# Altium integrated library TI_Logic_Specialty_Logic.IntLib: 2504 symbols (part 63 of 81)
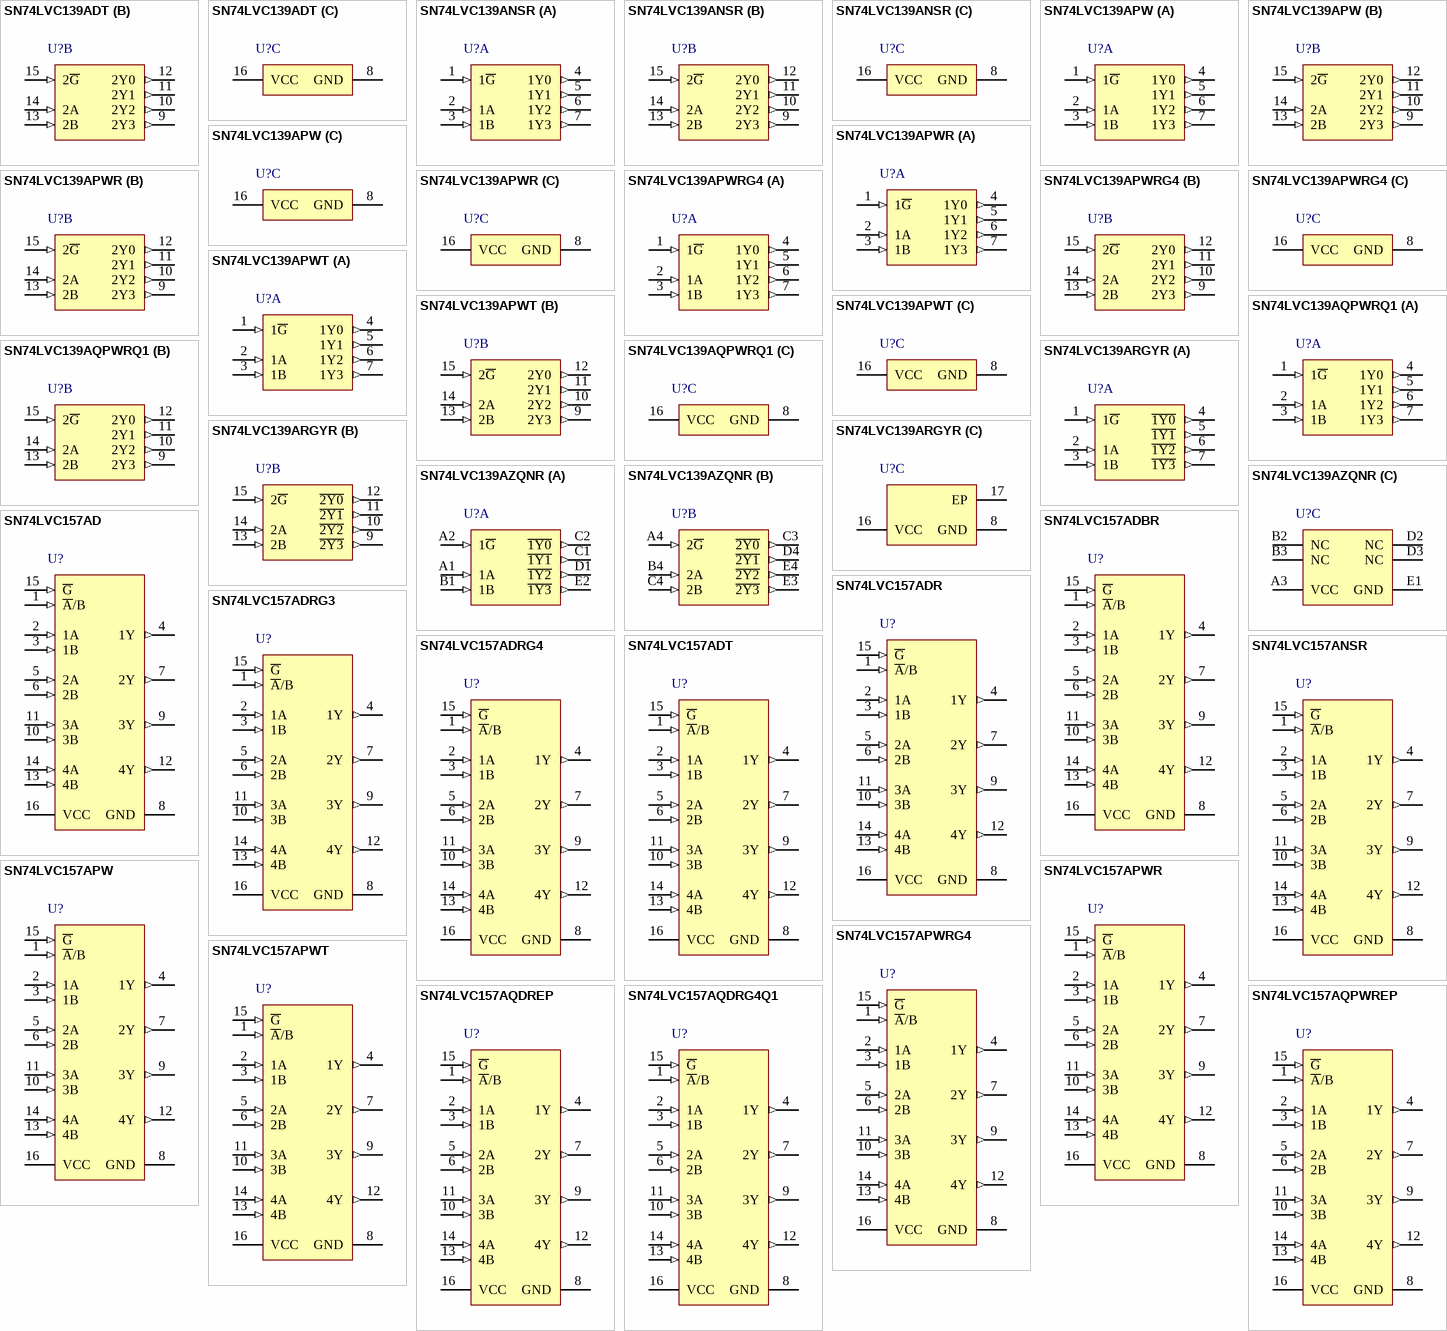
[diagram p166: symbols SN74LVC139ADT to SN74LVC157AQPWREP]

## SN74LVC139ARGYR
designator U?
Dual 2-Line To 4-Line Decoder/Demultiplexer, RGY0016A, LARGE T&R; Generic Part Number: SN74LVC139A; Manufacturer: Texas Instruments; PartNumber: SN74LVC139ARGYR; VCC(Min)(V): 1.65; VCC(Max)(V): 3.6; Output Type: CMOS; ICC @ Nom Voltage(Max)(mA): 0.01; Input Type: TLL/CMOS; Bits(#): 4; F @ Nom Voltage(Max)(Mhz): 100; Configuration: 2：4; Channels(#): 2; Rating: Catalog; Technology Family: LVC; Voltage(Nom)(V): 1.8,2.5,2.7,3.3; Schmitt Trigger: No; Output Drive (IOL/IOH)(Max)(mA): 24/-24; tpd @ Nom Voltage(Max)(ns): 20.6,9.3,7.3,6.2; DatasheetVersion: SCAS341O; PackageReference: RGY0016A; Supplier 1: Mouser; Supplier Part Number 1: 595-SN74LVC139ARGYR; Supplier 2: Digi-Key; Supplier Part Number 2: 296-13964-2-ND; Supplier 3: Digi-Key; Supplier Part Number 3: 296-13964-1-ND; Supplier 4: Digi-Key; Supplier Part Number 4: 296-13964-6-ND; Function: Decoder/Demultiplexer; Operating Temperature Range(C): -40 to 85; Type: Standard; Code_JEDEC: MO-241; ComponentLink1Description: Manufacturer URL; ComponentLink1URL: http://www.ti.com/; ComponentLink2Description: Datasheet; ComponentLink2URL: http://www.ti.com/lit/ds/symlink/sn74lvc139a.pdf; ComponentLink3Description: Package Specification; ComponentLink3URL: http://www.ti.com/lit/ml/mpqf115g/mpqf115g.pdf
footprint RGY0016A_V (QFN, 16-Leads, Body 4x3.5mm, Thermal Pad 2.55x2.05mm, TI Recommend)
part A pins: 1 1~{G} (in), 2 1A (in), 3 1B (in), 4 ~{1Y0} (out), 5 ~{1Y1} (out), 6 ~{1Y2} (out), 7 ~{1Y3} (out)
part B pins: 9 ~{2Y3} (out), 10 ~{2Y2} (out), 11 ~{2Y1} (out), 12 ~{2Y0} (out), 13 2B (in), 14 2A (in), 15 2~{G} (in)
part C pins: 8 GND (power), 16 VCC (power), 17 EP

## SN74LVC139AZQNR
designator U?
Dual 2-Line To 4-Line Decoder/Demultiplexer, ZQN0020A, LARGE T&R; Generic Part Number: SN74LVC139A; Manufacturer: Texas Instruments; PartNumber: SN74LVC139AZQNR; VCC(Min)(V): 1.65; VCC(Max)(V): 3.6; Output Type: CMOS; ICC @ Nom Voltage(Max)(mA): 0.01; Input Type: TLL/CMOS; Bits(#): 4; F @ Nom Voltage(Max)(Mhz): 100; Configuration: 2：4; Channels(#): 2; Rating: Catalog; Technology Family: LVC; Voltage(Nom)(V): 1.8,2.5,2.7,3.3; Schmitt Trigger: No; Output Drive (IOL/IOH)(Max)(mA): 24/-24; tpd @ Nom Voltage(Max)(ns): 20.6,9.3,7.3,6.2; DatasheetVersion: SCAS341O; PackageReference: ZQN0020A; Supplier 1: Mouser; Supplier Part Number 1: 595-SN74LVC139AZQNR; Supplier 2: Digi-Key; Supplier Part Number 2: 296-40547-2-ND; Supplier 3: Digi-Key; Supplier Part Number 3: 296-40547-1-ND; Supplier 4: Digi-Key; Supplier Part Number 4: 296-40547-6-ND; Function: Decoder/Demultiplexer; Operating Temperature Range(C): -40 to 85; Type: Standard; Code_JEDEC: MO-285; ComponentLink1Description: Manufacturer URL; ComponentLink1URL: http://www.ti.com/; ComponentLink2Description: Datasheet; ComponentLink2URL: http://www.ti.com/lit/ds/symlink/sn74lvc139a.pdf; ComponentLink3Description: Package Specification; ComponentLink3URL: http://www.ti.com/lit/ml/mpbg297b/mpbg297b.pdf
footprint ZQN0020A (BGA, 20-Balls, Body 4x3mm, Pitch 0.65mm)
part A pins: A1 1A (in), A2 1~{G} (in), B1 1B (in), C1 ~{1Y1} (out), C2 ~{1Y0} (out), D1 ~{1Y2} (out), E2 ~{1Y3} (out)
part B pins: A4 2~{G} (in), B4 2A (in), C3 ~{2Y0} (out), C4 2B (in), D4 ~{2Y1} (out), E3 ~{2Y3} (out), E4 ~{2Y2} (out)
part C pins: A3 VCC (power), B2 NC, B3 NC, D2 NC, D3 NC, E1 GND (power)

## SN74LVC157AD
designator U?
Quadruple 2-Line To1-Line Data Selector / Multiplexer, D0016A, TUBE; Generic Part Number: SN74LVC157A; Manufacturer: Texas Instruments; PartNumber: SN74LVC157AD; VCC(Min)(V): 1.65; VCC(Max)(V): 3.6; Output Type: CMOS; Function: Encoder/Multiplexer; ICC @ Nom Voltage(Max)(mA): 0.04; Input Type: TLL/CMOS; Bits(#): 2; F @ Nom Voltage(Max)(Mhz): 100; Configuration: 2：1; Channels(#): 4; Rating: Catalog; Technology Family: LVC; Voltage(Nom)(V): 1.8,2.5,2.7,3.3; Schmitt Trigger: No; Output Drive (IOL/IOH)(Max)(mA): 24/-24; tpd @ Nom Voltage(Max)(ns): 13.5,7.4,5.7,5; DatasheetVersion: SCAS292Q; PackageReference: D0016A; Supplier 1: Mouser; Supplier Part Number 1: 595-SN74LVC157AD; Supplier 2: Digi-Key; Supplier Part Number 2: 296-1700-5-ND; Operating Temperature Range(C): -40 to 85; Type: Standard; Code_JEDEC: MS-012 variation AC; ComponentLink1Description: Manufacturer URL; ComponentLink1URL: http://www.ti.com/; ComponentLink2Description: Datasheet; ComponentLink2URL: http://www.ti.com/lit/ds/symlink/sn74lvc157a.pdf; ComponentLink3Description: Package Specification; ComponentLink3URL: http://www.ti.com/lit/ml/mpds178g/mpds178g.pdf
footprint D0016A_N (SOIC, 16-Leads, Body 10x4mm, Pitch 1.27mm, IPC Medium Density)
footprint D0016A_M (SOIC, 16-Leads, Body 10x4mm, Pitch 1.27mm, IPC Low Density)
footprint D0016A_L (SOIC, 16-Leads, Body 10x4mm, Pitch 1.27mm, IPC High Density)
pins: 1 ~{A}/B (in), 2 1A (in), 3 1B (in), 4 1Y (out), 5 2A (in), 6 2B (in), 7 2Y (out), 8 GND (power), 9 3Y (out), 10 3B (in), 11 3A (in), 12 4Y (out), 13 4B (in), 14 4A (in), 15 ~{G} (in), 16 VCC (power)

## SN74LVC157ADBR
designator U?
Quadruple 2-Line To1-Line Data Selector / Multiplexer, DB0016A, LARGE T&R; Generic Part Number: SN74LVC157A; Manufacturer: Texas Instruments; PartNumber: SN74LVC157ADBR; VCC(Min)(V): 1.65; VCC(Max)(V): 3.6; Output Type: CMOS; Function: Encoder/Multiplexer; ICC @ Nom Voltage(Max)(mA): 0.04; Input Type: TLL/CMOS; Bits(#): 2; F @ Nom Voltage(Max)(Mhz): 100; Configuration: 2：1; Channels(#): 4; Rating: Catalog; Technology Family: LVC; Voltage(Nom)(V): 1.8,2.5,2.7,3.3; Schmitt Trigger: No; Output Drive (IOL/IOH)(Max)(mA): 24/-24; tpd @ Nom Voltage(Max)(ns): 13.5,7.4,5.7,5; DatasheetVersion: SCAS292Q; PackageReference: DB0016A; Supplier 1: Mouser; Supplier Part Number 1: 595-SN74LVC157ADBR; Supplier 2: Digi-Key; Supplier Part Number 2: 296-8465-2-ND; Supplier 3: Digi-Key; Supplier Part Number 3: 296-8465-1-ND; Supplier 4: Digi-Key; Supplier Part Number 4: 296-8465-6-ND; Operating Temperature Range(C): -40 to 85; Type: Standard; Code_JEDEC: MO-150; ComponentLink1Description: Manufacturer URL; ComponentLink1URL: http://www.ti.com/; ComponentLink2Description: Datasheet; ComponentLink2URL: http://www.ti.com/lit/ds/symlink/sn74lvc157a.pdf; ComponentLink3Description: Package Specification; ComponentLink3URL: http://www.ti.com/lit/ml/mpds507/mpds507.pdf
footprint DB0016A_N (SOP, 16-Leads, Body 5.6x6.5mm, Pitch 0.65mm, IPC Medium Density)
footprint DB0016A_M (SOP, 16-Leads, Body 5.6x6.5mm, Pitch 0.65mm, IPC Low Density)
footprint DB0016A_L (SOP, 16-Leads, Body 5.6x6.5mm, Pitch 0.65mm, IPC High Density)
pins: 1 ~{A}/B (in), 2 1A (in), 3 1B (in), 4 1Y (out), 5 2A (in), 6 2B (in), 7 2Y (out), 8 GND (power), 9 3Y (out), 10 3B (in), 11 3A (in), 12 4Y (out), 13 4B (in), 14 4A (in), 15 ~{G} (in), 16 VCC (power)

## SN74LVC157ADR
designator U?
Quadruple 2-Line To1-Line Data Selector / Multiplexer, D0016A, LARGE T&R; Generic Part Number: SN74LVC157A; Manufacturer: Texas Instruments; PartNumber: SN74LVC157ADR; VCC(Min)(V): 1.65; VCC(Max)(V): 3.6; Output Type: CMOS; Function: Encoder/Multiplexer; ICC @ Nom Voltage(Max)(mA): 0.04; Input Type: TLL/CMOS; Bits(#): 2; F @ Nom Voltage(Max)(Mhz): 100; Configuration: 2：1; Channels(#): 4; Rating: Catalog; Technology Family: LVC; Voltage(Nom)(V): 1.8,2.5,2.7,3.3; Schmitt Trigger: No; Output Drive (IOL/IOH)(Max)(mA): 24/-24; tpd @ Nom Voltage(Max)(ns): 13.5,7.4,5.7,5; DatasheetVersion: SCAS292Q; PackageReference: D0016A; Supplier 1: Mouser; Supplier Part Number 1: 595-SN74LVC157ADR; Supplier 2: Digi-Key; Supplier Part Number 2: 296-14907-2-ND; Supplier 3: Digi-Key; Supplier Part Number 3: 296-14907-1-ND; Supplier 4: Digi-Key; Supplier Part Number 4: 296-14907-6-ND; Operating Temperature Range(C): -40 to 85; Type: Standard; Code_JEDEC: MS-012 variation AC; ComponentLink1Description: Manufacturer URL; ComponentLink1URL: http://www.ti.com/; ComponentLink2Description: Datasheet; ComponentLink2URL: http://www.ti.com/lit/ds/symlink/sn74lvc157a.pdf; ComponentLink3Description: Package Specification; ComponentLink3URL: http://www.ti.com/lit/ml/mpds178g/mpds178g.pdf
footprint D0016A_N (SOIC, 16-Leads, Body 10x4mm, Pitch 1.27mm, IPC Medium Density)
footprint D0016A_M (SOIC, 16-Leads, Body 10x4mm, Pitch 1.27mm, IPC Low Density)
footprint D0016A_L (SOIC, 16-Leads, Body 10x4mm, Pitch 1.27mm, IPC High Density)
pins: 1 ~{A}/B (in), 2 1A (in), 3 1B (in), 4 1Y (out), 5 2A (in), 6 2B (in), 7 2Y (out), 8 GND (power), 9 3Y (out), 10 3B (in), 11 3A (in), 12 4Y (out), 13 4B (in), 14 4A (in), 15 ~{G} (in), 16 VCC (power)

## SN74LVC157ADRG3
designator U?
Quadruple 2-Line To1-Line Data Selector / Multiplexer, D0016A, LARGE T&R; Generic Part Number: SN74LVC157A; Manufacturer: Texas Instruments; PartNumber: SN74LVC157ADRG3; VCC(Min)(V): 1.65; VCC(Max)(V): 3.6; Output Type: CMOS; Function: Encoder/Multiplexer; ICC @ Nom Voltage(Max)(mA): 0.04; Input Type: TLL/CMOS; Bits(#): 2; F @ Nom Voltage(Max)(Mhz): 100; Configuration: 2：1; Channels(#): 4; Rating: Catalog; Technology Family: LVC; Voltage(Nom)(V): 1.8,2.5,2.7,3.3; Schmitt Trigger: No; Output Drive (IOL/IOH)(Max)(mA): 24/-24; tpd @ Nom Voltage(Max)(ns): 13.5,7.4,5.7,5; DatasheetVersion: SCAS292Q; PackageReference: D0016A; Supplier 1: Mouser; Supplier Part Number 1: 595-SN74LVC157ADRG3; Supplier 2: Digi-Key; Supplier Part Number 2: 296-31907-2-ND; Supplier 3: Digi-Key; Supplier Part Number 3: 296-31907-1-ND; Supplier 4: Digi-Key; Supplier Part Number 4: 296-31907-6-ND; Operating Temperature Range(C): -40 to 85; Type: Standard; Code_JEDEC: MS-012 variation AC; ComponentLink1Description: Manufacturer URL; ComponentLink1URL: http://www.ti.com/; ComponentLink2Description: Datasheet; ComponentLink2URL: http://www.ti.com/lit/ds/symlink/sn74lvc157a.pdf; ComponentLink3Description: Package Specification; ComponentLink3URL: http://www.ti.com/lit/ml/mpds178g/mpds178g.pdf
footprint D0016A_N (SOIC, 16-Leads, Body 10x4mm, Pitch 1.27mm, IPC Medium Density)
footprint D0016A_M (SOIC, 16-Leads, Body 10x4mm, Pitch 1.27mm, IPC Low Density)
footprint D0016A_L (SOIC, 16-Leads, Body 10x4mm, Pitch 1.27mm, IPC High Density)
pins: 1 ~{A}/B (in), 2 1A (in), 3 1B (in), 4 1Y (out), 5 2A (in), 6 2B (in), 7 2Y (out), 8 GND (power), 9 3Y (out), 10 3B (in), 11 3A (in), 12 4Y (out), 13 4B (in), 14 4A (in), 15 ~{G} (in), 16 VCC (power)

## SN74LVC157ADRG4
designator U?
Quadruple 2-Line To1-Line Data Selector / Multiplexer, D0016A, LARGE T&R; Generic Part Number: SN74LVC157A; Manufacturer: Texas Instruments; PartNumber: SN74LVC157ADRG4; VCC(Min)(V): 1.65; VCC(Max)(V): 3.6; Output Type: CMOS; Function: Encoder/Multiplexer; ICC @ Nom Voltage(Max)(mA): 0.04; Input Type: TLL/CMOS; Bits(#): 2; F @ Nom Voltage(Max)(Mhz): 100; Configuration: 2：1; Channels(#): 4; Rating: Catalog; Technology Family: LVC; Voltage(Nom)(V): 1.8,2.5,2.7,3.3; Schmitt Trigger: No; Output Drive (IOL/IOH)(Max)(mA): 24/-24; tpd @ Nom Voltage(Max)(ns): 13.5,7.4,5.7,5; DatasheetVersion: SCAS292Q; PackageReference: D0016A; Supplier 1: Mouser; Supplier Part Number 1: 595-SN74LVC157ADRG4; Supplier 2: Digi-Key; Supplier Part Number 2: SN74LVC157ADRG4-ND; Operating Temperature Range(C): -40 to 85; Type: Standard; Code_JEDEC: MS-012 variation AC; ComponentLink1Description: Manufacturer URL; ComponentLink1URL: http://www.ti.com/; ComponentLink2Description: Datasheet; ComponentLink2URL: http://www.ti.com/lit/ds/symlink/sn74lvc157a.pdf; ComponentLink3Description: Package Specification; ComponentLink3URL: http://www.ti.com/lit/ml/mpds178g/mpds178g.pdf
footprint D0016A_N (SOIC, 16-Leads, Body 10x4mm, Pitch 1.27mm, IPC Medium Density)
footprint D0016A_M (SOIC, 16-Leads, Body 10x4mm, Pitch 1.27mm, IPC Low Density)
footprint D0016A_L (SOIC, 16-Leads, Body 10x4mm, Pitch 1.27mm, IPC High Density)
pins: 1 ~{A}/B (in), 2 1A (in), 3 1B (in), 4 1Y (out), 5 2A (in), 6 2B (in), 7 2Y (out), 8 GND (power), 9 3Y (out), 10 3B (in), 11 3A (in), 12 4Y (out), 13 4B (in), 14 4A (in), 15 ~{G} (in), 16 VCC (power)

## SN74LVC157ADT
designator U?
Quadruple 2-Line To1-Line Data Selector / Multiplexer, D0016A, SMALL T&R; Generic Part Number: SN74LVC157A; Manufacturer: Texas Instruments; PartNumber: SN74LVC157ADT; VCC(Min)(V): 1.65; VCC(Max)(V): 3.6; Output Type: CMOS; Function: Encoder/Multiplexer; ICC @ Nom Voltage(Max)(mA): 0.04; Input Type: TLL/CMOS; Bits(#): 2; F @ Nom Voltage(Max)(Mhz): 100; Configuration: 2：1; Channels(#): 4; Rating: Catalog; Technology Family: LVC; Voltage(Nom)(V): 1.8,2.5,2.7,3.3; Schmitt Trigger: No; Output Drive (IOL/IOH)(Max)(mA): 24/-24; tpd @ Nom Voltage(Max)(ns): 13.5,7.4,5.7,5; DatasheetVersion: SCAS292Q; PackageReference: D0016A; Supplier 1: Mouser; Supplier Part Number 1: 595-SN74LVC157ADT; Supplier 2: Digi-Key; Supplier Part Number 2: SN74LVC157ADT-ND; Operating Temperature Range(C): -40 to 85; Type: Standard; Code_JEDEC: MS-012 variation AC; ComponentLink1Description: Manufacturer URL; ComponentLink1URL: http://www.ti.com/; ComponentLink2Description: Datasheet; ComponentLink2URL: http://www.ti.com/lit/ds/symlink/sn74lvc157a.pdf; ComponentLink3Description: Package Specification; ComponentLink3URL: http://www.ti.com/lit/ml/mpds178g/mpds178g.pdf
footprint D0016A_N (SOIC, 16-Leads, Body 10x4mm, Pitch 1.27mm, IPC Medium Density)
footprint D0016A_M (SOIC, 16-Leads, Body 10x4mm, Pitch 1.27mm, IPC Low Density)
footprint D0016A_L (SOIC, 16-Leads, Body 10x4mm, Pitch 1.27mm, IPC High Density)
pins: 1 ~{A}/B (in), 2 1A (in), 3 1B (in), 4 1Y (out), 5 2A (in), 6 2B (in), 7 2Y (out), 8 GND (power), 9 3Y (out), 10 3B (in), 11 3A (in), 12 4Y (out), 13 4B (in), 14 4A (in), 15 ~{G} (in), 16 VCC (power)

## SN74LVC157ANSR
designator U?
Quadruple 2-Line To1-Line Data Selector / Multiplexer, NS0016A, LARGE T&R; Generic Part Number: SN74LVC157A; Manufacturer: Texas Instruments; PartNumber: SN74LVC157ANSR; VCC(Min)(V): 1.65; VCC(Max)(V): 3.6; Output Type: CMOS; Function: Encoder/Multiplexer; ICC @ Nom Voltage(Max)(mA): 0.04; Input Type: TLL/CMOS; Bits(#): 2; F @ Nom Voltage(Max)(Mhz): 100; Configuration: 2：1; Channels(#): 4; Rating: Catalog; Technology Family: LVC; Voltage(Nom)(V): 1.8,2.5,2.7,3.3; Schmitt Trigger: No; Output Drive (IOL/IOH)(Max)(mA): 24/-24; tpd @ Nom Voltage(Max)(ns): 13.5,7.4,5.7,5; DatasheetVersion: SCAS292Q; PackageReference: NS0016A; Supplier 1: Mouser; Supplier Part Number 1: 595-SN74LVC157ANSR; Supplier 2: Digi-Key; Supplier Part Number 2: 296-26585-2-ND; Supplier 3: Digi-Key; Supplier Part Number 3: 296-26585-1-ND; Supplier 4: Digi-Key; Supplier Part Number 4: 296-26585-6-ND; Operating Temperature Range(C): -40 to 85; Type: Standard; ComponentLink1Description: Manufacturer URL; ComponentLink1URL: http://www.ti.com/; ComponentLink2Description: Datasheet; ComponentLink2URL: http://www.ti.com/lit/ds/symlink/sn74lvc157a.pdf; ComponentLink3Description: Package Specification; ComponentLink3URL: http://www.ti.com/lit/ml/msop002a/msop002a.pdf
footprint NS0016A_N (SOIC,16-Leads,Body 10.5x5.6mm,Pitch 1.27mm,IPC Medium Density)
footprint NS0016A_M (SOIC,16-Leads,Body 10.5x5.6mm,Pitch 1.27mm,IPC Low Density)
footprint NS0016A_L (SOIC,16-Leads,Body 10.5x5.6mm,Pitch 1.27mm,IPC High Density)
pins: 1 ~{A}/B (in), 2 1A (in), 3 1B (in), 4 1Y (out), 5 2A (in), 6 2B (in), 7 2Y (out), 8 GND (power), 9 3Y (out), 10 3B (in), 11 3A (in), 12 4Y (out), 13 4B (in), 14 4A (in), 15 ~{G} (in), 16 VCC (power)

## SN74LVC157APW
designator U?
Quadruple 2-Line To1-Line Data Selector / Multiplexer, PW0016A, TUBE; Generic Part Number: SN74LVC157A; Manufacturer: Texas Instruments; PartNumber: SN74LVC157APW; VCC(Min)(V): 1.65; VCC(Max)(V): 3.6; Output Type: CMOS; Function: Encoder/Multiplexer; ICC @ Nom Voltage(Max)(mA): 0.04; Input Type: TLL/CMOS; Bits(#): 2; F @ Nom Voltage(Max)(Mhz): 100; Configuration: 2：1; Channels(#): 4; Rating: Catalog; Technology Family: LVC; Voltage(Nom)(V): 1.8,2.5,2.7,3.3; Schmitt Trigger: No; Output Drive (IOL/IOH)(Max)(mA): 24/-24; tpd @ Nom Voltage(Max)(ns): 13.5,7.4,5.7,5; DatasheetVersion: SCAS292Q; PackageReference: PW0016A; Supplier 1: Mouser; Supplier Part Number 1: 595-SN74LVC157APW; Supplier 2: Digi-Key; Supplier Part Number 2: 296-26586-5-ND; Operating Temperature Range(C): -40 to 85; Type: Standard; Code_JEDEC: MO-153; ComponentLink1Description: Manufacturer URL; ComponentLink1URL: http://www.ti.com/; ComponentLink2Description: Datasheet; ComponentLink2URL: http://www.ti.com/lit/ds/symlink/sn74lvc157a.pdf; ComponentLink3Description: Package Specification; ComponentLink3URL: http://www.ti.com/lit/ml/mpds361/mpds361.pdf
footprint PW0016A_N (SOP, 16-Leads, Body 5.1x4.5mm, Pitch 0.65mm, IPC Medium Density)
footprint PW0016A_M (SOP, 16-Leads, Body 5.1x4.5mm, Pitch 0.65mm, IPC Low Density)
footprint PW0016A_L (SOP, 16-Leads, Body 5.1x4.5mm, Pitch 0.65mm, IPC High Density)
pins: 1 ~{A}/B (in), 2 1A (in), 3 1B (in), 4 1Y (out), 5 2A (in), 6 2B (in), 7 2Y (out), 8 GND (power), 9 3Y (out), 10 3B (in), 11 3A (in), 12 4Y (out), 13 4B (in), 14 4A (in), 15 ~{G} (in), 16 VCC (power)

## SN74LVC157APWR
designator U?
Quadruple 2-Line To1-Line Data Selector / Multiplexer, PW0016A, LARGE T&R; Generic Part Number: SN74LVC157A; Manufacturer: Texas Instruments; PartNumber: SN74LVC157APWR; VCC(Min)(V): 1.65; VCC(Max)(V): 3.6; Output Type: CMOS; Function: Encoder/Multiplexer; ICC @ Nom Voltage(Max)(mA): 0.04; Input Type: TLL/CMOS; Bits(#): 2; F @ Nom Voltage(Max)(Mhz): 100; Configuration: 2：1; Channels(#): 4; Rating: Catalog; Technology Family: LVC; Voltage(Nom)(V): 1.8,2.5,2.7,3.3; Schmitt Trigger: No; Output Drive (IOL/IOH)(Max)(mA): 24/-24; tpd @ Nom Voltage(Max)(ns): 13.5,7.4,5.7,5; DatasheetVersion: SCAS292Q; PackageReference: PW0016A; Supplier 1: Mouser; Supplier Part Number 1: 595-SN74LVC157APWR; Supplier 2: Digi-Key; Supplier Part Number 2: 296-1225-2-ND; Supplier 3: Digi-Key; Supplier Part Number 3: 296-1225-1-ND; Supplier 4: Digi-Key; Supplier Part Number 4: 296-1225-6-ND; Operating Temperature Range(C): -40 to 85; Type: Standard; Code_JEDEC: MO-153; ComponentLink1Description: Manufacturer URL; ComponentLink1URL: http://www.ti.com/; ComponentLink2Description: Datasheet; ComponentLink2URL: http://www.ti.com/lit/ds/symlink/sn74lvc157a.pdf; ComponentLink3Description: Package Specification; ComponentLink3URL: http://www.ti.com/lit/ml/mpds361/mpds361.pdf
footprint PW0016A_N (SOP, 16-Leads, Body 5.1x4.5mm, Pitch 0.65mm, IPC Medium Density)
footprint PW0016A_M (SOP, 16-Leads, Body 5.1x4.5mm, Pitch 0.65mm, IPC Low Density)
footprint PW0016A_L (SOP, 16-Leads, Body 5.1x4.5mm, Pitch 0.65mm, IPC High Density)
pins: 1 ~{A}/B (in), 2 1A (in), 3 1B (in), 4 1Y (out), 5 2A (in), 6 2B (in), 7 2Y (out), 8 GND (power), 9 3Y (out), 10 3B (in), 11 3A (in), 12 4Y (out), 13 4B (in), 14 4A (in), 15 ~{G} (in), 16 VCC (power)

## SN74LVC157APWRG4
designator U?
Quadruple 2-Line To1-Line Data Selector / Multiplexer, PW0016A, LARGE T&R; Generic Part Number: SN74LVC157A; Manufacturer: Texas Instruments; PartNumber: SN74LVC157APWRG4; VCC(Min)(V): 1.65; VCC(Max)(V): 3.6; Output Type: CMOS; Function: Encoder/Multiplexer; ICC @ Nom Voltage(Max)(mA): 0.04; Input Type: TLL/CMOS; Bits(#): 2; F @ Nom Voltage(Max)(Mhz): 100; Configuration: 2：1; Channels(#): 4; Rating: Catalog; Technology Family: LVC; Voltage(Nom)(V): 1.8,2.5,2.7,3.3; Schmitt Trigger: No; Output Drive (IOL/IOH)(Max)(mA): 24/-24; tpd @ Nom Voltage(Max)(ns): 13.5,7.4,5.7,5; DatasheetVersion: SCAS292Q; PackageReference: PW0016A; Supplier 1: Mouser; Supplier Part Number 1: 595-SN74LVC157APWRG4; Supplier 2: Digi-Key; Supplier Part Number 2: SN74LVC157APWRG4-ND; Operating Temperature Range(C): -40 to 85; Type: Standard; Code_JEDEC: MO-153; ComponentLink1Description: Manufacturer URL; ComponentLink1URL: http://www.ti.com/; ComponentLink2Description: Datasheet; ComponentLink2URL: http://www.ti.com/lit/ds/symlink/sn74lvc157a.pdf; ComponentLink3Description: Package Specification; ComponentLink3URL: http://www.ti.com/lit/ml/mpds361/mpds361.pdf
footprint PW0016A_N (SOP, 16-Leads, Body 5.1x4.5mm, Pitch 0.65mm, IPC Medium Density)
footprint PW0016A_M (SOP, 16-Leads, Body 5.1x4.5mm, Pitch 0.65mm, IPC Low Density)
footprint PW0016A_L (SOP, 16-Leads, Body 5.1x4.5mm, Pitch 0.65mm, IPC High Density)
pins: 1 ~{A}/B (in), 2 1A (in), 3 1B (in), 4 1Y (out), 5 2A (in), 6 2B (in), 7 2Y (out), 8 GND (power), 9 3Y (out), 10 3B (in), 11 3A (in), 12 4Y (out), 13 4B (in), 14 4A (in), 15 ~{G} (in), 16 VCC (power)

## SN74LVC157APWT
designator U?
Quadruple 2-Line To1-Line Data Selector / Multiplexer, PW0016A, SMALL T&R; Generic Part Number: SN74LVC157A; Manufacturer: Texas Instruments; PartNumber: SN74LVC157APWT; VCC(Min)(V): 1.65; VCC(Max)(V): 3.6; Output Type: CMOS; Function: Encoder/Multiplexer; ICC @ Nom Voltage(Max)(mA): 0.04; Input Type: TLL/CMOS; Bits(#): 2; F @ Nom Voltage(Max)(Mhz): 100; Configuration: 2：1; Channels(#): 4; Rating: Catalog; Technology Family: LVC; Voltage(Nom)(V): 1.8,2.5,2.7,3.3; Schmitt Trigger: No; Output Drive (IOL/IOH)(Max)(mA): 24/-24; tpd @ Nom Voltage(Max)(ns): 13.5,7.4,5.7,5; DatasheetVersion: SCAS292Q; PackageReference: PW0016A; Supplier 1: Mouser; Supplier Part Number 1: 595-SN74LVC157APWT; Supplier 2: Digi-Key; Supplier Part Number 2: 296-31908-2-ND; Supplier 3: Digi-Key; Supplier Part Number 3: 296-31908-1-ND; Supplier 4: Digi-Key; Supplier Part Number 4: 296-31908-6-ND; Operating Temperature Range(C): -40 to 85; Type: Standard; Code_JEDEC: MO-153; ComponentLink1Description: Manufacturer URL; ComponentLink1URL: http://www.ti.com/; ComponentLink2Description: Datasheet; ComponentLink2URL: http://www.ti.com/lit/ds/symlink/sn74lvc157a.pdf; ComponentLink3Description: Package Specification; ComponentLink3URL: http://www.ti.com/lit/ml/mpds361/mpds361.pdf
footprint PW0016A_N (SOP, 16-Leads, Body 5.1x4.5mm, Pitch 0.65mm, IPC Medium Density)
footprint PW0016A_M (SOP, 16-Leads, Body 5.1x4.5mm, Pitch 0.65mm, IPC Low Density)
footprint PW0016A_L (SOP, 16-Leads, Body 5.1x4.5mm, Pitch 0.65mm, IPC High Density)
pins: 1 ~{A}/B (in), 2 1A (in), 3 1B (in), 4 1Y (out), 5 2A (in), 6 2B (in), 7 2Y (out), 8 GND (power), 9 3Y (out), 10 3B (in), 11 3A (in), 12 4Y (out), 13 4B (in), 14 4A (in), 15 ~{G} (in), 16 VCC (power)

## SN74LVC157AQDREP
designator U?
Enhanced Product Quadruple 2-Line To 1-Line Data Selector / Multiplexer, D0016A, LARGE T&R; Generic Part Number: SN74LVC157A-EP; Manufacturer: Texas Instruments; PartNumber: SN74LVC157AQDREP; VCC(Min)(V): 2; VCC(Max)(V): 3.6; ICC @ Nom Voltage(Max)(mA): 0.01; F @ Nom Voltage(Max)(Mhz): 100; Channels(#): 4; Rating: HiRel Enhanced Product; Technology Family: LVC; Voltage(Nom)(V): 2.7,3.3; Schmitt Trigger: No; Output Drive (IOL/IOH)(Max)(mA): 24/-24; tpd @ Nom Voltage(Max)(ns): 8.2,7; DatasheetVersion: SCAS735A; PackageReference: D0016A; Supplier 1: Mouser; Supplier Part Number 1: 595-SN74LVC157AQDREP; Supplier 2: Digi-Key; Supplier Part Number 2: 296-22335-2-ND; Supplier 3: Digi-Key; Supplier Part Number 3: 296-22335-1-ND; Supplier 4: Digi-Key; Supplier Part Number 4: 296-22335-6-ND; Operating Temperature Range(C): -40 to 125; Type: Standard; Code_JEDEC: MS-012 variation AC; ComponentLink1Description: Manufacturer URL; ComponentLink1URL: http://www.ti.com/; ComponentLink2Description: Datasheet; ComponentLink2URL: http://www.ti.com/lit/ds/symlink/sn74lvc157a-ep.pdf; ComponentLink3Description: Package Specification; ComponentLink3URL: http://www.ti.com/lit/ml/mpds178g/mpds178g.pdf
footprint D0016A_N (SOIC, 16-Leads, Body 10x4mm, Pitch 1.27mm, IPC Medium Density)
footprint D0016A_M (SOIC, 16-Leads, Body 10x4mm, Pitch 1.27mm, IPC Low Density)
footprint D0016A_L (SOIC, 16-Leads, Body 10x4mm, Pitch 1.27mm, IPC High Density)
pins: 1 ~{A}/B (in), 2 1A (in), 3 1B (in), 4 1Y (out), 5 2A (in), 6 2B (in), 7 2Y (out), 8 GND (power), 9 3Y (out), 10 3B (in), 11 3A (in), 12 4Y (out), 13 4B (in), 14 4A (in), 15 ~{G} (in), 16 VCC (power)

## SN74LVC157AQDRG4Q1
designator U?
Automotive Catalog Quadruple 2-Line To 1-Line Data Selector / Multiplexer, D0016A, LARGE T&R; Generic Part Number: SN74LVC157A-Q1; Manufacturer: Texas Instruments; PartNumber: SN74LVC157AQDRG4Q1; VCC(Min)(V): 2; VCC(Max)(V): 3.6; Output Type: CMOS; ICC @ Nom Voltage(Max)(mA): 0.01; Input Type: TLL/CMOS; F @ Nom Voltage(Max)(Mhz): 100; Channels(#): 4; Technology Family: LVC; Voltage(Nom)(V): 2.7,3.3; Schmitt Trigger: No; Output Drive (IOL/IOH)(Max)(mA): 24/-24; tpd @ Nom Voltage(Max)(ns): 8.2,7; DatasheetVersion: SCAS716C; PackageReference: D0016A; Supplier 1: Mouser; Supplier Part Number 1: 595-74LVC157AQDRG4Q1; Supplier 2: Digi-Key; Supplier Part Number 2: SN74LVC157AQDRG4Q1-ND; Bits(#): 2; Operating Temperature Range(C): -40 to 125; Type: Standard; Rating: Automotive; Code_JEDEC: MS-012 variation AC; ComponentLink1Description: Manufacturer URL; ComponentLink1URL: http://www.ti.com/; ComponentLink2Description: Datasheet; ComponentLink2URL: http://www.ti.com/lit/ds/symlink/sn74lvc157a-q1.pdf; ComponentLink3Description: Package Specification; ComponentLink3URL: http://www.ti.com/lit/ml/mpds178g/mpds178g.pdf
footprint D0016A_N (SOIC, 16-Leads, Body 10x4mm, Pitch 1.27mm, IPC Medium Density)
footprint D0016A_M (SOIC, 16-Leads, Body 10x4mm, Pitch 1.27mm, IPC Low Density)
footprint D0016A_L (SOIC, 16-Leads, Body 10x4mm, Pitch 1.27mm, IPC High Density)
pins: 1 ~{A}/B (in), 2 1A (in), 3 1B (in), 4 1Y (out), 5 2A (in), 6 2B (in), 7 2Y (out), 8 GND (power), 9 3Y (out), 10 3B (in), 11 3A (in), 12 4Y (out), 13 4B (in), 14 4A (in), 15 ~{G} (in), 16 VCC (power)

## SN74LVC157AQPWREP
designator U?
Enhanced Product Quadruple 2-Line To 1-Line Data Selector / Multiplexer, PW0016A, LARGE T&R; Generic Part Number: SN74LVC157A-EP; Manufacturer: Texas Instruments; PartNumber: SN74LVC157AQPWREP; VCC(Min)(V): 2; VCC(Max)(V): 3.6; ICC @ Nom Voltage(Max)(mA): 0.01; F @ Nom Voltage(Max)(Mhz): 100; Channels(#): 4; Rating: HiRel Enhanced Product; Technology Family: LVC; Voltage(Nom)(V): 2.7,3.3; Schmitt Trigger: No; Output Drive (IOL/IOH)(Max)(mA): 24/-24; tpd @ Nom Voltage(Max)(ns): 8.2,7; DatasheetVersion: SCAS735A; PackageReference: PW0016A; Supplier 1: Mouser; Supplier Part Number 1: 595-N74LVC157AQPWREP; Supplier 2: Digi-Key; Supplier Part Number 2: 296-22336-2-ND; Supplier 3: Digi-Key; Supplier Part Number 3: 296-22336-1-ND; Supplier 4: Digi-Key; Supplier Part Number 4: 296-22336-6-ND; Operating Temperature Range(C): -40 to 125; Type: Standard; Code_JEDEC: MO-153; ComponentLink1Description: Manufacturer URL; ComponentLink1URL: http://www.ti.com/; ComponentLink2Description: Datasheet; ComponentLink2URL: http://www.ti.com/lit/ds/symlink/sn74lvc157a-ep.pdf; ComponentLink3Description: Package Specification; ComponentLink3URL: http://www.ti.com/lit/ml/mpds361/mpds361.pdf
footprint PW0016A_N (SOP, 16-Leads, Body 5.1x4.5mm, Pitch 0.65mm, IPC Medium Density)
footprint PW0016A_M (SOP, 16-Leads, Body 5.1x4.5mm, Pitch 0.65mm, IPC Low Density)
footprint PW0016A_L (SOP, 16-Leads, Body 5.1x4.5mm, Pitch 0.65mm, IPC High Density)
pins: 1 ~{A}/B (in), 2 1A (in), 3 1B (in), 4 1Y (out), 5 2A (in), 6 2B (in), 7 2Y (out), 8 GND (power), 9 3Y (out), 10 3B (in), 11 3A (in), 12 4Y (out), 13 4B (in), 14 4A (in), 15 ~{G} (in), 16 VCC (power)

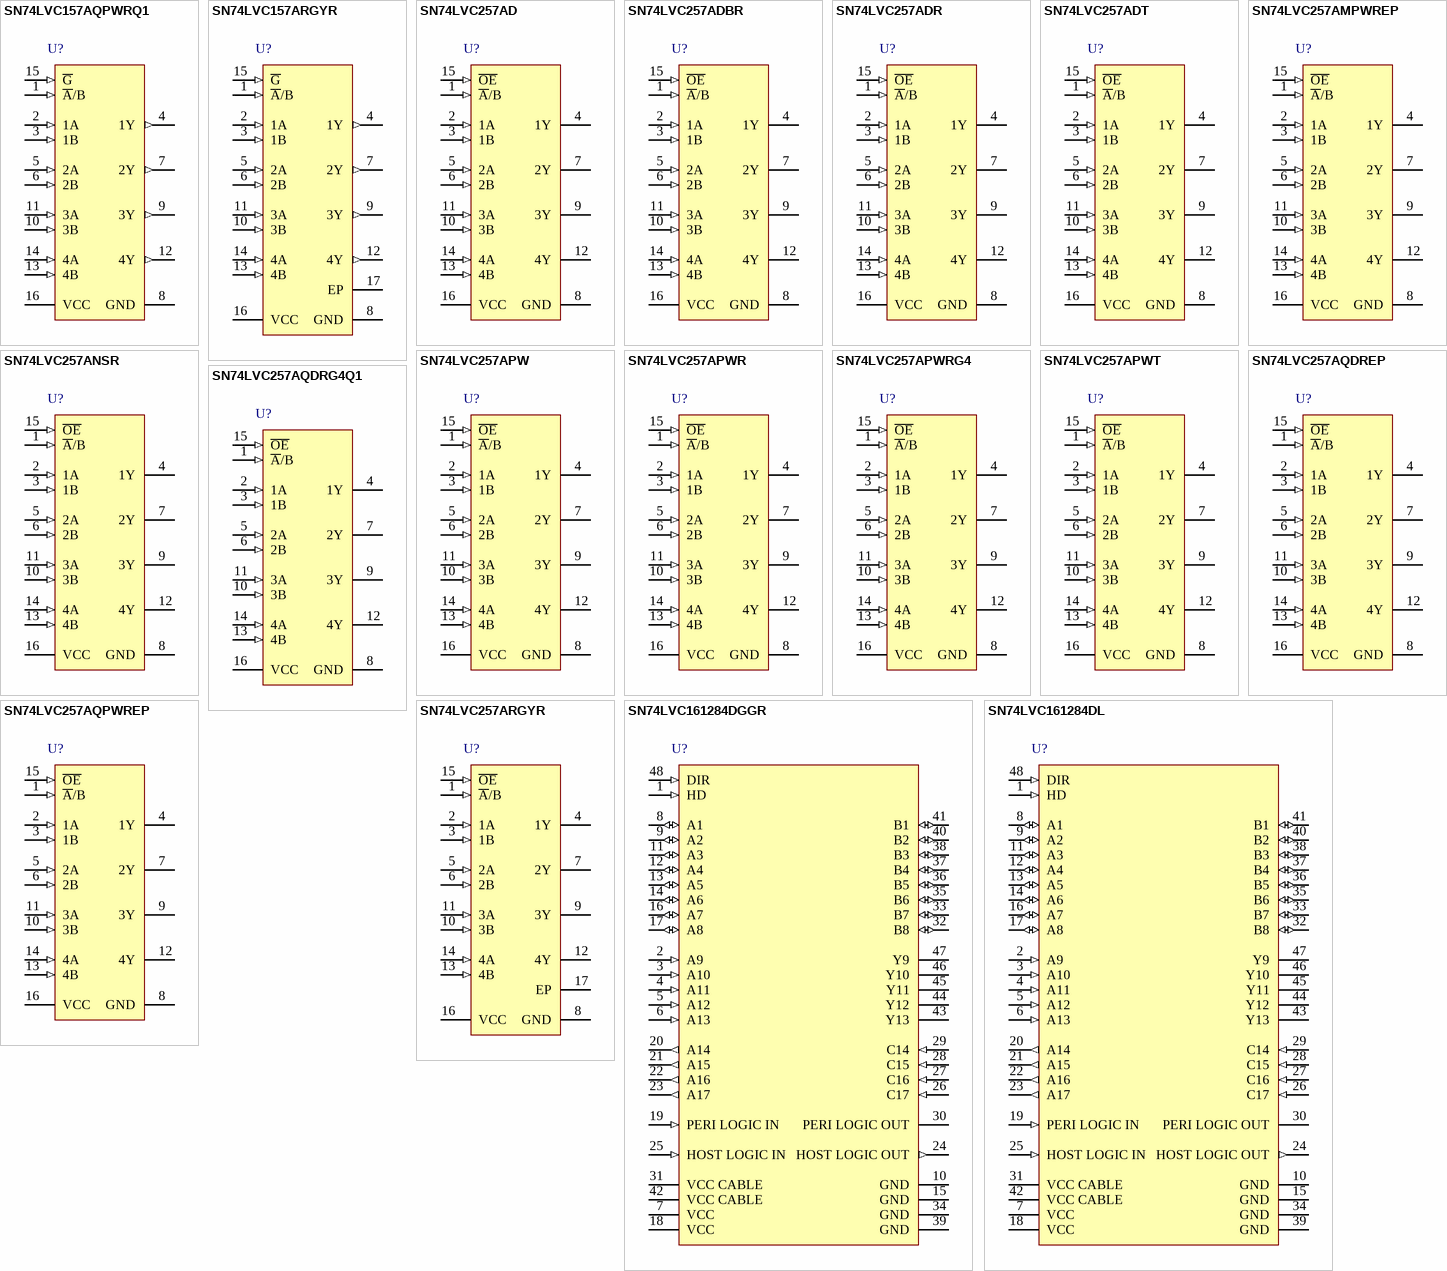
[diagram p80: symbols SN74LVC157AQPWRQ1 to SN74LVC161284DL]

## SN74LVC157AQPWRQ1
designator U?
Automotive Catalog Quadruple 2-Line To 1-Line Data Selector / Multiplexer, PW0016A, LARGE T&R; Generic Part Number: SN74LVC157A-Q1; Manufacturer: Texas Instruments; PartNumber: SN74LVC157AQPWRQ1; VCC(Min)(V): 2; VCC(Max)(V): 3.6; Output Type: CMOS; ICC @ Nom Voltage(Max)(mA): 0.01; Input Type: TLL/CMOS; F @ Nom Voltage(Max)(Mhz): 100; Channels(#): 4; Technology Family: LVC; Voltage(Nom)(V): 2.7,3.3; Schmitt Trigger: No; Output Drive (IOL/IOH)(Max)(mA): 24/-24; tpd @ Nom Voltage(Max)(ns): 8.2,7; DatasheetVersion: SCAS716C; PackageReference: PW0016A; Supplier 1: Mouser; Supplier Part Number 1: 595-SN74LVC157AQPWRQ; Supplier 2: Digi-Key; Supplier Part Number 2: 296-17743-2-ND; Supplier 3: Digi-Key; Supplier Part Number 3: 296-17743-1-ND; Supplier 4: Digi-Key; Supplier Part Number 4: 296-17743-6-ND; Bits(#): 2; Operating Temperature Range(C): -40 to 125; Type: Standard; Rating: Automotive; Code_JEDEC: MO-153; ComponentLink1Description: Manufacturer URL; ComponentLink1URL: http://www.ti.com/; ComponentLink2Description: Datasheet; ComponentLink2URL: http://www.ti.com/lit/ds/symlink/sn74lvc157a-q1.pdf; ComponentLink3Description: Package Specification; ComponentLink3URL: http://www.ti.com/lit/ml/mpds361/mpds361.pdf
footprint PW0016A_N (SOP, 16-Leads, Body 5.1x4.5mm, Pitch 0.65mm, IPC Medium Density)
footprint PW0016A_M (SOP, 16-Leads, Body 5.1x4.5mm, Pitch 0.65mm, IPC Low Density)
footprint PW0016A_L (SOP, 16-Leads, Body 5.1x4.5mm, Pitch 0.65mm, IPC High Density)
pins: 1 ~{A}/B (in), 2 1A (in), 3 1B (in), 4 1Y (out), 5 2A (in), 6 2B (in), 7 2Y (out), 8 GND (power), 9 3Y (out), 10 3B (in), 11 3A (in), 12 4Y (out), 13 4B (in), 14 4A (in), 15 ~{G} (in), 16 VCC (power)

## SN74LVC157ARGYR
designator U?
Quadruple 2-Line To1-Line Data Selector / Multiplexer, RGY0016A, LARGE T&R; Generic Part Number: SN74LVC157A; Manufacturer: Texas Instruments; PartNumber: SN74LVC157ARGYR; VCC(Min)(V): 1.65; VCC(Max)(V): 3.6; Output Type: CMOS; Function: Encoder/Multiplexer; ICC @ Nom Voltage(Max)(mA): 0.04; Input Type: TLL/CMOS; Bits(#): 2; F @ Nom Voltage(Max)(Mhz): 100; Configuration: 2：1; Channels(#): 4; Rating: Catalog; Technology Family: LVC; Voltage(Nom)(V): 1.8,2.5,2.7,3.3; Schmitt Trigger: No; Output Drive (IOL/IOH)(Max)(mA): 24/-24; tpd @ Nom Voltage(Max)(ns): 13.5,7.4,5.7,5; DatasheetVersion: SCAS292Q; PackageReference: RGY0016A; Supplier 1: Mouser; Supplier Part Number 1: 595-SN74LVC157ARGYR; Supplier 2: Digi-Key; Supplier Part Number 2: 296-13966-2-ND; Supplier 3: Digi-Key; Supplier Part Number 3: 296-13966-1-ND; Supplier 4: Digi-Key; Supplier Part Number 4: 296-13966-6-ND; Operating Temperature Range(C): -40 to 85; Type: Standard; Code_JEDEC: MO-241; ComponentLink1Description: Manufacturer URL; ComponentLink1URL: http://www.ti.com/; ComponentLink2Description: Datasheet; ComponentLink2URL: http://www.ti.com/lit/ds/symlink/sn74lvc157a.pdf; ComponentLink3Description: Package Specification; ComponentLink3URL: http://www.ti.com/lit/ml/mpqf115g/mpqf115g.pdf
footprint RGY0016A_V (QFN, 16-Leads, Body 4x3.5mm, Thermal Pad 2.55x2.05mm, TI Recommend)
pins: 1 ~{A}/B (in), 2 1A (in), 3 1B (in), 4 1Y (out), 5 2A (in), 6 2B (in), 7 2Y (out), 8 GND (power), 9 3Y (out), 10 3B (in), 11 3A (in), 12 4Y (out), 13 4B (in), 14 4A (in), 15 ~{G} (in), 16 VCC (power), 17 EP

## SN74LVC257AD
designator U?
Quadruple 2-Line To 1-Line Data Selector/Multiplexer With 3-State Outputs, D0016A, TUBE; Generic Part Number: SN74LVC257A; Manufacturer: Texas Instruments; PartNumber: SN74LVC257AD; VCC(Min)(V): 1.65; VCC(Max)(V): 3.6; Output Type: CMOS; Function: Encoder/Multiplexer; ICC @ Nom Voltage(Max)(mA): 0.01; Input Type: TLL/CMOS; Bits(#): 2; F @ Nom Voltage(Max)(Mhz): 100; Configuration: 2：1; Channels(#): 4; Rating: Catalog; Technology Family: LVC; Voltage(Nom)(V): 1.8,2.5,2.7,3.3; Schmitt Trigger: No; Output Drive (IOL/IOH)(Max)(mA): 24/-24; tpd @ Nom Voltage(Max)(ns): 15.6,9.5,7.5,6.4; DatasheetVersion: SCAS294O; PackageReference: D0016A; Supplier 1: Digi-Key; Supplier Part Number 1: 296-8504-5-ND; Operating Temperature Range(C): -40 to 85; Type: 3-State Output; Code_JEDEC: MS-012 variation AC; ComponentLink1Description: Manufacturer URL; ComponentLink1URL: http://www.ti.com/; ComponentLink2Description: Datasheet; ComponentLink2URL: http://www.ti.com/lit/ds/symlink/sn74lvc257a.pdf; ComponentLink3Description: Package Specification; ComponentLink3URL: http://www.ti.com/lit/ml/mpds178g/mpds178g.pdf
footprint D0016A_N (SOIC, 16-Leads, Body 10x4mm, Pitch 1.27mm, IPC Medium Density)
footprint D0016A_M (SOIC, 16-Leads, Body 10x4mm, Pitch 1.27mm, IPC Low Density)
footprint D0016A_L (SOIC, 16-Leads, Body 10x4mm, Pitch 1.27mm, IPC High Density)
pins: 1 ~{A}/B (in), 2 1A (in), 3 1B (in), 4 1Y (hiz), 5 2A (in), 6 2B (in), 7 2Y (hiz), 8 GND (power), 9 3Y (hiz), 10 3B (in), 11 3A (in), 12 4Y (hiz), 13 4B (in), 14 4A (in), 15 ~{OE} (in), 16 VCC (power)

## SN74LVC257ADBR
designator U?
Quadruple 2-Line To 1-Line Data Selector/Multiplexer With 3-State Outputs, DB0016A, LARGE T&R; Generic Part Number: SN74LVC257A; Manufacturer: Texas Instruments; PartNumber: SN74LVC257ADBR; VCC(Min)(V): 1.65; VCC(Max)(V): 3.6; Output Type: CMOS; Function: Encoder/Multiplexer; ICC @ Nom Voltage(Max)(mA): 0.01; Input Type: TLL/CMOS; Bits(#): 2; F @ Nom Voltage(Max)(Mhz): 100; Configuration: 2：1; Channels(#): 4; Rating: Catalog; Technology Family: LVC; Voltage(Nom)(V): 1.8,2.5,2.7,3.3; Schmitt Trigger: No; Output Drive (IOL/IOH)(Max)(mA): 24/-24; tpd @ Nom Voltage(Max)(ns): 15.6,9.5,7.5,6.4; DatasheetVersion: SCAS294O; PackageReference: DB0016A; Supplier 1: Mouser; Supplier Part Number 1: 595-SN74LVC257ADBR; Supplier 2: Digi-Key; Supplier Part Number 2: 296-12903-2-ND; Supplier 3: Digi-Key; Supplier Part Number 3: 296-12903-1-ND; Supplier 4: Digi-Key; Supplier Part Number 4: 296-12903-6-ND; Operating Temperature Range(C): -40 to 85; Type: 3-State Output; Code_JEDEC: MO-150; ComponentLink1Description: Manufacturer URL; ComponentLink1URL: http://www.ti.com/; ComponentLink2Description: Datasheet; ComponentLink2URL: http://www.ti.com/lit/ds/symlink/sn74lvc257a.pdf; ComponentLink3Description: Package Specification; ComponentLink3URL: http://www.ti.com/lit/ml/mpds507/mpds507.pdf
footprint DB0016A_N (SOP, 16-Leads, Body 5.6x6.5mm, Pitch 0.65mm, IPC Medium Density)
footprint DB0016A_M (SOP, 16-Leads, Body 5.6x6.5mm, Pitch 0.65mm, IPC Low Density)
footprint DB0016A_L (SOP, 16-Leads, Body 5.6x6.5mm, Pitch 0.65mm, IPC High Density)
pins: 1 ~{A}/B (in), 2 1A (in), 3 1B (in), 4 1Y (hiz), 5 2A (in), 6 2B (in), 7 2Y (hiz), 8 GND (power), 9 3Y (hiz), 10 3B (in), 11 3A (in), 12 4Y (hiz), 13 4B (in), 14 4A (in), 15 ~{OE} (in), 16 VCC (power)

## SN74LVC257ADR
designator U?
Quadruple 2-Line To 1-Line Data Selector/Multiplexer With 3-State Outputs, D0016A, LARGE T&R; Generic Part Number: SN74LVC257A; Manufacturer: Texas Instruments; PartNumber: SN74LVC257ADR; VCC(Min)(V): 1.65; VCC(Max)(V): 3.6; Output Type: CMOS; Function: Encoder/Multiplexer; ICC @ Nom Voltage(Max)(mA): 0.01; Input Type: TLL/CMOS; Bits(#): 2; F @ Nom Voltage(Max)(Mhz): 100; Configuration: 2：1; Channels(#): 4; Rating: Catalog; Technology Family: LVC; Voltage(Nom)(V): 1.8,2.5,2.7,3.3; Schmitt Trigger: No; Output Drive (IOL/IOH)(Max)(mA): 24/-24; tpd @ Nom Voltage(Max)(ns): 15.6,9.5,7.5,6.4; DatasheetVersion: SCAS294O; PackageReference: D0016A; Supplier 1: Mouser; Supplier Part Number 1: 595-SN74LVC257ADR; Supplier 2: Digi-Key; Supplier Part Number 2: 296-8504-2-ND; Supplier 3: Digi-Key; Supplier Part Number 3: 296-8504-1-ND; Supplier 4: Digi-Key; Supplier Part Number 4: 296-8504-6-ND; Operating Temperature Range(C): -40 to 85; Type: 3-State Output; Code_JEDEC: MS-012 variation AC; ComponentLink1Description: Manufacturer URL; ComponentLink1URL: http://www.ti.com/; ComponentLink2Description: Datasheet; ComponentLink2URL: http://www.ti.com/lit/ds/symlink/sn74lvc257a.pdf; ComponentLink3Description: Package Specification; ComponentLink3URL: http://www.ti.com/lit/ml/mpds178g/mpds178g.pdf
footprint D0016A_N (SOIC, 16-Leads, Body 10x4mm, Pitch 1.27mm, IPC Medium Density)
footprint D0016A_M (SOIC, 16-Leads, Body 10x4mm, Pitch 1.27mm, IPC Low Density)
footprint D0016A_L (SOIC, 16-Leads, Body 10x4mm, Pitch 1.27mm, IPC High Density)
pins: 1 ~{A}/B (in), 2 1A (in), 3 1B (in), 4 1Y (hiz), 5 2A (in), 6 2B (in), 7 2Y (hiz), 8 GND (power), 9 3Y (hiz), 10 3B (in), 11 3A (in), 12 4Y (hiz), 13 4B (in), 14 4A (in), 15 ~{OE} (in), 16 VCC (power)

## SN74LVC257ADT
designator U?
Quadruple 2-Line To 1-Line Data Selector/Multiplexer With 3-State Outputs, D0016A, SMALL T&R; Generic Part Number: SN74LVC257A; Manufacturer: Texas Instruments; PartNumber: SN74LVC257ADT; VCC(Min)(V): 1.65; VCC(Max)(V): 3.6; Output Type: CMOS; Function: Encoder/Multiplexer; ICC @ Nom Voltage(Max)(mA): 0.01; Input Type: TLL/CMOS; Bits(#): 2; F @ Nom Voltage(Max)(Mhz): 100; Configuration: 2：1; Channels(#): 4; Rating: Catalog; Technology Family: LVC; Voltage(Nom)(V): 1.8,2.5,2.7,3.3; Schmitt Trigger: No; Output Drive (IOL/IOH)(Max)(mA): 24/-24; tpd @ Nom Voltage(Max)(ns): 15.6,9.5,7.5,6.4; DatasheetVersion: SCAS294O; PackageReference: D0016A; Supplier 1: Mouser; Supplier Part Number 1: 595-SN74LVC257ADT; Supplier 2: Digi-Key; Supplier Part Number 2: SN74LVC257ADT-ND; Operating Temperature Range(C): -40 to 85; Type: 3-State Output; Code_JEDEC: MS-012 variation AC; ComponentLink1Description: Manufacturer URL; ComponentLink1URL: http://www.ti.com/; ComponentLink2Description: Datasheet; ComponentLink2URL: http://www.ti.com/lit/ds/symlink/sn74lvc257a.pdf; ComponentLink3Description: Package Specification; ComponentLink3URL: http://www.ti.com/lit/ml/mpds178g/mpds178g.pdf
footprint D0016A_N (SOIC, 16-Leads, Body 10x4mm, Pitch 1.27mm, IPC Medium Density)
footprint D0016A_M (SOIC, 16-Leads, Body 10x4mm, Pitch 1.27mm, IPC Low Density)
footprint D0016A_L (SOIC, 16-Leads, Body 10x4mm, Pitch 1.27mm, IPC High Density)
pins: 1 ~{A}/B (in), 2 1A (in), 3 1B (in), 4 1Y (hiz), 5 2A (in), 6 2B (in), 7 2Y (hiz), 8 GND (power), 9 3Y (hiz), 10 3B (in), 11 3A (in), 12 4Y (hiz), 13 4B (in), 14 4A (in), 15 ~{OE} (in), 16 VCC (power)

## SN74LVC257AMPWREP
designator U?
Enhanced Product Quadruple 2-Line To 1-Line Data Selector/Multiplexer With 3-State Outputs, PW0016A, LARGE T&R; Generic Part Number: SN74LVC257A-EP; Manufacturer: Texas Instruments; PartNumber: SN74LVC257AMPWREP; VCC(Min)(V): 2; VCC(Max)(V): 3.6; ICC @ Nom Voltage(Max)(mA): 0.01; F @ Nom Voltage(Max)(Mhz): 100; Channels(#): 4; Rating: HiRel Enhanced Product; Technology Family: LVC; Voltage(Nom)(V): 2.7,3.3; Schmitt Trigger: No; Output Drive (IOL/IOH)(Max)(mA): 24/-24; tpd @ Nom Voltage(Max)(ns): 7.5,6.4; DatasheetVersion: SCAS736B; PackageReference: PW0016A; Supplier 1: Mouser; Supplier Part Number 1: 595-N74LVC257AMPWREP; Supplier 2: Digi-Key; Supplier Part Number 2: 296-22355-2-ND; Supplier 3: Digi-Key; Supplier Part Number 3: 296-22355-1-ND; Supplier 4: Digi-Key; Supplier Part Number 4: 296-22355-6-ND; Operating Temperature Range(C): -40 to 125,-55 to 125; Type: 3-State Output; Code_JEDEC: MO-153; ComponentLink1Description: Manufacturer URL; ComponentLink1URL: http://www.ti.com/; ComponentLink2Description: Datasheet; ComponentLink2URL: http://www.ti.com/lit/ds/symlink/sn74lvc257a-ep.pdf; ComponentLink3Description: Package Specification; ComponentLink3URL: http://www.ti.com/lit/ml/mpds361/mpds361.pdf
footprint PW0016A_N (SOP, 16-Leads, Body 5.1x4.5mm, Pitch 0.65mm, IPC Medium Density)
footprint PW0016A_M (SOP, 16-Leads, Body 5.1x4.5mm, Pitch 0.65mm, IPC Low Density)
footprint PW0016A_L (SOP, 16-Leads, Body 5.1x4.5mm, Pitch 0.65mm, IPC High Density)
pins: 1 ~{A}/B (in), 2 1A (in), 3 1B (in), 4 1Y (hiz), 5 2A (in), 6 2B (in), 7 2Y (hiz), 8 GND (power), 9 3Y (hiz), 10 3B (in), 11 3A (in), 12 4Y (hiz), 13 4B (in), 14 4A (in), 15 ~{OE} (in), 16 VCC (power)

## SN74LVC257ANSR
designator U?
Quadruple 2-Line To 1-Line Data Selector/Multiplexer With 3-State Outputs, NS0016A, LARGE T&R; Generic Part Number: SN74LVC257A; Manufacturer: Texas Instruments; PartNumber: SN74LVC257ANSR; VCC(Min)(V): 1.65; VCC(Max)(V): 3.6; Output Type: CMOS; Function: Encoder/Multiplexer; ICC @ Nom Voltage(Max)(mA): 0.01; Input Type: TLL/CMOS; Bits(#): 2; F @ Nom Voltage(Max)(Mhz): 100; Configuration: 2：1; Channels(#): 4; Rating: Catalog; Technology Family: LVC; Voltage(Nom)(V): 1.8,2.5,2.7,3.3; Schmitt Trigger: No; Output Drive (IOL/IOH)(Max)(mA): 24/-24; tpd @ Nom Voltage(Max)(ns): 15.6,9.5,7.5,6.4; DatasheetVersion: SCAS294O; PackageReference: NS0016A; Supplier 1: Mouser; Supplier Part Number 1: 595-SN74LVC257ANSR; Supplier 2: Digi-Key; Supplier Part Number 2: 296-38808-2-ND; Supplier 3: Digi-Key; Supplier Part Number 3: 296-38808-1-ND; Supplier 4: Digi-Key; Supplier Part Number 4: 296-38808-6-ND; Operating Temperature Range(C): -40 to 85; Type: 3-State Output; ComponentLink1Description: Manufacturer URL; ComponentLink1URL: http://www.ti.com/; ComponentLink2Description: Datasheet; ComponentLink2URL: http://www.ti.com/lit/ds/symlink/sn74lvc257a.pdf; ComponentLink3Description: Package Specification; ComponentLink3URL: http://www.ti.com/lit/ml/msop002a/msop002a.pdf
footprint NS0016A_N (SOIC,16-Leads,Body 10.5x5.6mm,Pitch 1.27mm,IPC Medium Density)
footprint NS0016A_M (SOIC,16-Leads,Body 10.5x5.6mm,Pitch 1.27mm,IPC Low Density)
footprint NS0016A_L (SOIC,16-Leads,Body 10.5x5.6mm,Pitch 1.27mm,IPC High Density)
pins: 1 ~{A}/B (in), 2 1A (in), 3 1B (in), 4 1Y (hiz), 5 2A (in), 6 2B (in), 7 2Y (hiz), 8 GND (power), 9 3Y (hiz), 10 3B (in), 11 3A (in), 12 4Y (hiz), 13 4B (in), 14 4A (in), 15 ~{OE} (in), 16 VCC (power)

## SN74LVC257APW
designator U?
Quadruple 2-Line To 1-Line Data Selector/Multiplexer With 3-State Outputs, PW0016A, TUBE; Generic Part Number: SN74LVC257A; Manufacturer: Texas Instruments; PartNumber: SN74LVC257APW; VCC(Min)(V): 1.65; VCC(Max)(V): 3.6; Output Type: CMOS; Function: Encoder/Multiplexer; ICC @ Nom Voltage(Max)(mA): 0.01; Input Type: TLL/CMOS; Bits(#): 2; F @ Nom Voltage(Max)(Mhz): 100; Configuration: 2：1; Channels(#): 4; Rating: Catalog; Technology Family: LVC; Voltage(Nom)(V): 1.8,2.5,2.7,3.3; Schmitt Trigger: No; Output Drive (IOL/IOH)(Max)(mA): 24/-24; tpd @ Nom Voltage(Max)(ns): 15.6,9.5,7.5,6.4; DatasheetVersion: SCAS294O; PackageReference: PW0016A; Supplier 1: Mouser; Supplier Part Number 1: 595-SN74LVC257APW; Supplier 2: Digi-Key; Supplier Part Number 2: 296-26611-5-ND; Operating Temperature Range(C): -40 to 85; Type: 3-State Output; Code_JEDEC: MO-153; ComponentLink1Description: Manufacturer URL; ComponentLink1URL: http://www.ti.com/; ComponentLink2Description: Datasheet; ComponentLink2URL: http://www.ti.com/lit/ds/symlink/sn74lvc257a.pdf; ComponentLink3Description: Package Specification; ComponentLink3URL: http://www.ti.com/lit/ml/mpds361/mpds361.pdf
footprint PW0016A_N (SOP, 16-Leads, Body 5.1x4.5mm, Pitch 0.65mm, IPC Medium Density)
footprint PW0016A_M (SOP, 16-Leads, Body 5.1x4.5mm, Pitch 0.65mm, IPC Low Density)
footprint PW0016A_L (SOP, 16-Leads, Body 5.1x4.5mm, Pitch 0.65mm, IPC High Density)
pins: 1 ~{A}/B (in), 2 1A (in), 3 1B (in), 4 1Y (hiz), 5 2A (in), 6 2B (in), 7 2Y (hiz), 8 GND (power), 9 3Y (hiz), 10 3B (in), 11 3A (in), 12 4Y (hiz), 13 4B (in), 14 4A (in), 15 ~{OE} (in), 16 VCC (power)

## SN74LVC257APWR
designator U?
Quadruple 2-Line To 1-Line Data Selector/Multiplexer With 3-State Outputs, PW0016A, LARGE T&R; Generic Part Number: SN74LVC257A; Manufacturer: Texas Instruments; PartNumber: SN74LVC257APWR; VCC(Min)(V): 1.65; VCC(Max)(V): 3.6; Output Type: CMOS; Function: Encoder/Multiplexer; ICC @ Nom Voltage(Max)(mA): 0.01; Input Type: TLL/CMOS; Bits(#): 2; F @ Nom Voltage(Max)(Mhz): 100; Configuration: 2：1; Channels(#): 4; Rating: Catalog; Technology Family: LVC; Voltage(Nom)(V): 1.8,2.5,2.7,3.3; Schmitt Trigger: No; Output Drive (IOL/IOH)(Max)(mA): 24/-24; tpd @ Nom Voltage(Max)(ns): 15.6,9.5,7.5,6.4; DatasheetVersion: SCAS294O; PackageReference: PW0016A; Supplier 1: Mouser; Supplier Part Number 1: 595-SN74LVC257APWR; Supplier 2: Digi-Key; Supplier Part Number 2: 296-8506-2-ND; Supplier 3: Digi-Key; Supplier Part Number 3: 296-8506-1-ND; Supplier 4: Digi-Key; Supplier Part Number 4: 296-8506-6-ND; Operating Temperature Range(C): -40 to 85; Type: 3-State Output; Code_JEDEC: MO-153; ComponentLink1Description: Manufacturer URL; ComponentLink1URL: http://www.ti.com/; ComponentLink2Description: Datasheet; ComponentLink2URL: http://www.ti.com/lit/ds/symlink/sn74lvc257a.pdf; ComponentLink3Description: Package Specification; ComponentLink3URL: http://www.ti.com/lit/ml/mpds361/mpds361.pdf
footprint PW0016A_N (SOP, 16-Leads, Body 5.1x4.5mm, Pitch 0.65mm, IPC Medium Density)
footprint PW0016A_M (SOP, 16-Leads, Body 5.1x4.5mm, Pitch 0.65mm, IPC Low Density)
footprint PW0016A_L (SOP, 16-Leads, Body 5.1x4.5mm, Pitch 0.65mm, IPC High Density)
pins: 1 ~{A}/B (in), 2 1A (in), 3 1B (in), 4 1Y (hiz), 5 2A (in), 6 2B (in), 7 2Y (hiz), 8 GND (power), 9 3Y (hiz), 10 3B (in), 11 3A (in), 12 4Y (hiz), 13 4B (in), 14 4A (in), 15 ~{OE} (in), 16 VCC (power)

## SN74LVC257APWRG4
designator U?
Quadruple 2-Line To 1-Line Data Selector/Multiplexer With 3-State Outputs, PW0016A, LARGE T&R; Generic Part Number: SN74LVC257A; Manufacturer: Texas Instruments; PartNumber: SN74LVC257APWRG4; VCC(Min)(V): 1.65; VCC(Max)(V): 3.6; Output Type: CMOS; Function: Encoder/Multiplexer; ICC @ Nom Voltage(Max)(mA): 0.01; Input Type: TLL/CMOS; Bits(#): 2; F @ Nom Voltage(Max)(Mhz): 100; Configuration: 2：1; Channels(#): 4; Rating: Catalog; Technology Family: LVC; Voltage(Nom)(V): 1.8,2.5,2.7,3.3; Schmitt Trigger: No; Output Drive (IOL/IOH)(Max)(mA): 24/-24; tpd @ Nom Voltage(Max)(ns): 15.6,9.5,7.5,6.4; DatasheetVersion: SCAS294O; PackageReference: PW0016A; Supplier 1: Mouser; Supplier Part Number 1: 595-SN74LVC257APWRG4; Supplier 2: Digi-Key; Supplier Part Number 2: SN74LVC257APWRG4-ND; Operating Temperature Range(C): -40 to 85; Type: 3-State Output; Code_JEDEC: MO-153; ComponentLink1Description: Manufacturer URL; ComponentLink1URL: http://www.ti.com/; ComponentLink2Description: Datasheet; ComponentLink2URL: http://www.ti.com/lit/ds/symlink/sn74lvc257a.pdf; ComponentLink3Description: Package Specification; ComponentLink3URL: http://www.ti.com/lit/ml/mpds361/mpds361.pdf
footprint PW0016A_N (SOP, 16-Leads, Body 5.1x4.5mm, Pitch 0.65mm, IPC Medium Density)
footprint PW0016A_M (SOP, 16-Leads, Body 5.1x4.5mm, Pitch 0.65mm, IPC Low Density)
footprint PW0016A_L (SOP, 16-Leads, Body 5.1x4.5mm, Pitch 0.65mm, IPC High Density)
pins: 1 ~{A}/B (in), 2 1A (in), 3 1B (in), 4 1Y (hiz), 5 2A (in), 6 2B (in), 7 2Y (hiz), 8 GND (power), 9 3Y (hiz), 10 3B (in), 11 3A (in), 12 4Y (hiz), 13 4B (in), 14 4A (in), 15 ~{OE} (in), 16 VCC (power)

## SN74LVC257APWT
designator U?
Quadruple 2-Line To 1-Line Data Selector/Multiplexer With 3-State Outputs, PW0016A, SMALL T&R; Generic Part Number: SN74LVC257A; Manufacturer: Texas Instruments; PartNumber: SN74LVC257APWT; VCC(Min)(V): 1.65; VCC(Max)(V): 3.6; Output Type: CMOS; Function: Encoder/Multiplexer; ICC @ Nom Voltage(Max)(mA): 0.01; Input Type: TLL/CMOS; Bits(#): 2; F @ Nom Voltage(Max)(Mhz): 100; Configuration: 2：1; Channels(#): 4; Rating: Catalog; Technology Family: LVC; Voltage(Nom)(V): 1.8,2.5,2.7,3.3; Schmitt Trigger: No; Output Drive (IOL/IOH)(Max)(mA): 24/-24; tpd @ Nom Voltage(Max)(ns): 15.6,9.5,7.5,6.4; DatasheetVersion: SCAS294O; PackageReference: PW0016A; Supplier 1: Mouser; Supplier Part Number 1: 595-SN74LVC257APWT; Supplier 2: Digi-Key; Supplier Part Number 2: SN74LVC257APWT-ND; Operating Temperature Range(C): -40 to 85; Type: 3-State Output; Code_JEDEC: MO-153; ComponentLink1Description: Manufacturer URL; ComponentLink1URL: http://www.ti.com/; ComponentLink2Description: Datasheet; ComponentLink2URL: http://www.ti.com/lit/ds/symlink/sn74lvc257a.pdf; ComponentLink3Description: Package Specification; ComponentLink3URL: http://www.ti.com/lit/ml/mpds361/mpds361.pdf
footprint PW0016A_N (SOP, 16-Leads, Body 5.1x4.5mm, Pitch 0.65mm, IPC Medium Density)
footprint PW0016A_M (SOP, 16-Leads, Body 5.1x4.5mm, Pitch 0.65mm, IPC Low Density)
footprint PW0016A_L (SOP, 16-Leads, Body 5.1x4.5mm, Pitch 0.65mm, IPC High Density)
pins: 1 ~{A}/B (in), 2 1A (in), 3 1B (in), 4 1Y (hiz), 5 2A (in), 6 2B (in), 7 2Y (hiz), 8 GND (power), 9 3Y (hiz), 10 3B (in), 11 3A (in), 12 4Y (hiz), 13 4B (in), 14 4A (in), 15 ~{OE} (in), 16 VCC (power)

## SN74LVC257AQDREP
designator U?
Enhanced Product Quadruple 2-Line To 1-Line Data Selector/Multiplexer With 3-State Outputs, D0016A, LARGE T&R; Generic Part Number: SN74LVC257A-EP; Manufacturer: Texas Instruments; PartNumber: SN74LVC257AQDREP; VCC(Min)(V): 2; VCC(Max)(V): 3.6; ICC @ Nom Voltage(Max)(mA): 0.01; F @ Nom Voltage(Max)(Mhz): 100; Channels(#): 4; Rating: HiRel Enhanced Product; Technology Family: LVC; Voltage(Nom)(V): 2.7,3.3; Schmitt Trigger: No; Output Drive (IOL/IOH)(Max)(mA): 24/-24; tpd @ Nom Voltage(Max)(ns): 7.5,6.4; DatasheetVersion: SCAS736B; PackageReference: D0016A; Supplier 1: Mouser; Supplier Part Number 1: 595-SN74LVC257AQDREP; Supplier 2: Digi-Key; Supplier Part Number 2: 296-22356-2-ND; Supplier 3: Digi-Key; Supplier Part Number 3: 296-22356-1-ND; Supplier 4: Digi-Key; Supplier Part Number 4: 296-22356-6-ND; Operating Temperature Range(C): -40 to 125,-55 to 125; Type: 3-State Output; Code_JEDEC: MS-012 variation AC; ComponentLink1Description: Manufacturer URL; ComponentLink1URL: http://www.ti.com/; ComponentLink2Description: Datasheet; ComponentLink2URL: http://www.ti.com/lit/ds/symlink/sn74lvc257a-ep.pdf; ComponentLink3Description: Package Specification; ComponentLink3URL: http://www.ti.com/lit/ml/mpds178g/mpds178g.pdf
footprint D0016A_N (SOIC, 16-Leads, Body 10x4mm, Pitch 1.27mm, IPC Medium Density)
footprint D0016A_M (SOIC, 16-Leads, Body 10x4mm, Pitch 1.27mm, IPC Low Density)
footprint D0016A_L (SOIC, 16-Leads, Body 10x4mm, Pitch 1.27mm, IPC High Density)
pins: 1 ~{A}/B (in), 2 1A (in), 3 1B (in), 4 1Y (hiz), 5 2A (in), 6 2B (in), 7 2Y (hiz), 8 GND (power), 9 3Y (hiz), 10 3B (in), 11 3A (in), 12 4Y (hiz), 13 4B (in), 14 4A (in), 15 ~{OE} (in), 16 VCC (power)